# EAGLE library part TCA6416A (library deiring-components)
IO Expander
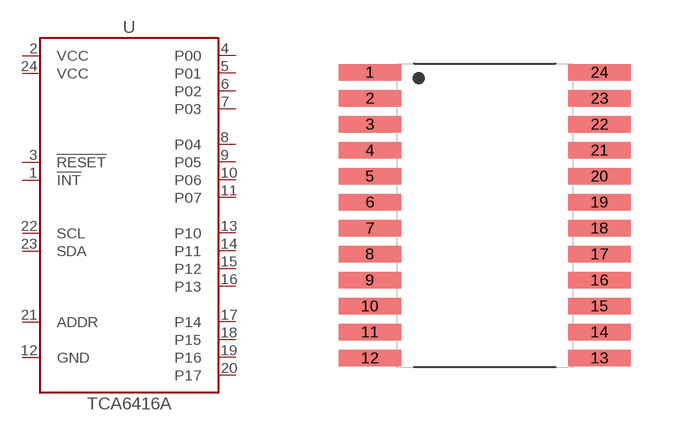
[diagram p15: symbol with the pads of TSSOP-24; footprint TSSOP-24]

Designator prefix U

## TCA6416A-TSSOP-24 (LCSC: C130203; MF: Texas Instruments; MPN: TCA6416APWR; VALUE: TCA6416A)  [TSSOP-24]
1  !INT  out
2  VCC  pwr
3  !RESET  in
4  P00
5  P01
6  P02
7  P03
8  P04
9  P05
10  P06
11  P07
12  GND  pwr
13  P10
14  P11
15  P12
16  P13
17  P14
18  P15
19  P16
20  P17
21  ADDR  in
22  SCL  in
23  SDA
24  VCC  pwr

## Footprint TSSOP-24 (pad centres in mm)
smd 1.57 x 0.41: 1 -2.87,3.575; 2 -2.87,2.925; 3 -2.87,2.275; 4 -2.87,1.625; 5 -2.87,0.975; 6 -2.87,0.325; 7 -2.87,-0.325; 8 -2.87,-0.975; 9 -2.87,-1.625; 10 -2.87,-2.275; 11 -2.87,-2.925; 12 -2.87,-3.575; 13 2.87,-3.575; 14 2.87,-2.925; 15 2.87,-2.275; 16 2.87,-1.625; 17 2.87,-0.975; 18 2.87,-0.325; 19 2.87,0.325; 20 2.87,0.975; 21 2.87,1.625; 22 2.87,2.275; 23 2.87,2.925; 24 2.87,3.575